# EAGLE library part M50-4910545 (library dr-library)
Harwin 10-pin Connector M50 Series 1.27mm pitch
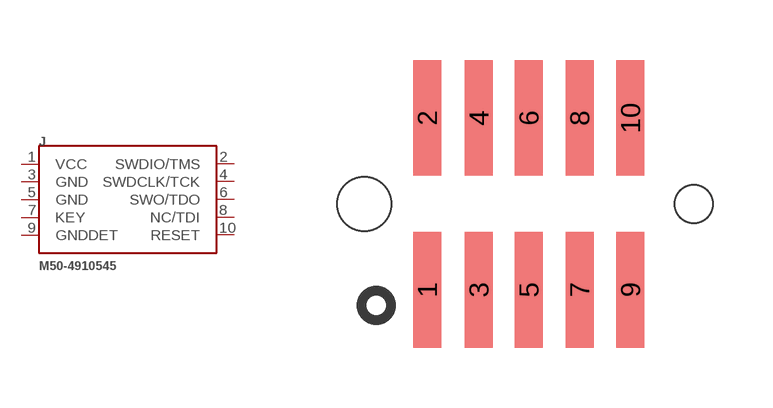
[diagram p11: symbol with the pads of M50-4910545; footprint M50-4910545]

Designator prefix J

## M50-4910545  [M50-4910545]
1  VCC
2  SWDIO/TMS
3  GND
4  SWDCLK/TCK
5  GND
6  SWO/TDO
7  KEY
8  NC/TDI
9  GNDDET
10  RESET

## Footprint M50-4910545 (pad centres in mm)
10-pin connector 1.27mm pitch
smd 0.7 x 2.9: 1 -2.54,-2.15; 2 -2.54,2.15; 3 -1.25,-2.15; 4 -1.25,2.15; 5 0,-2.15; 6 0,2.15; 7 1.27,-2.15; 8 1.27,2.15; 9 2.54,-2.15; 10 2.54,2.15
hole 0.95 at 4.12,0
hole 1.35 at -4.12,0